# Altium schematic symbol library BKIT4U_LIB.SchLib: 368 symbols (part 3 of 3)
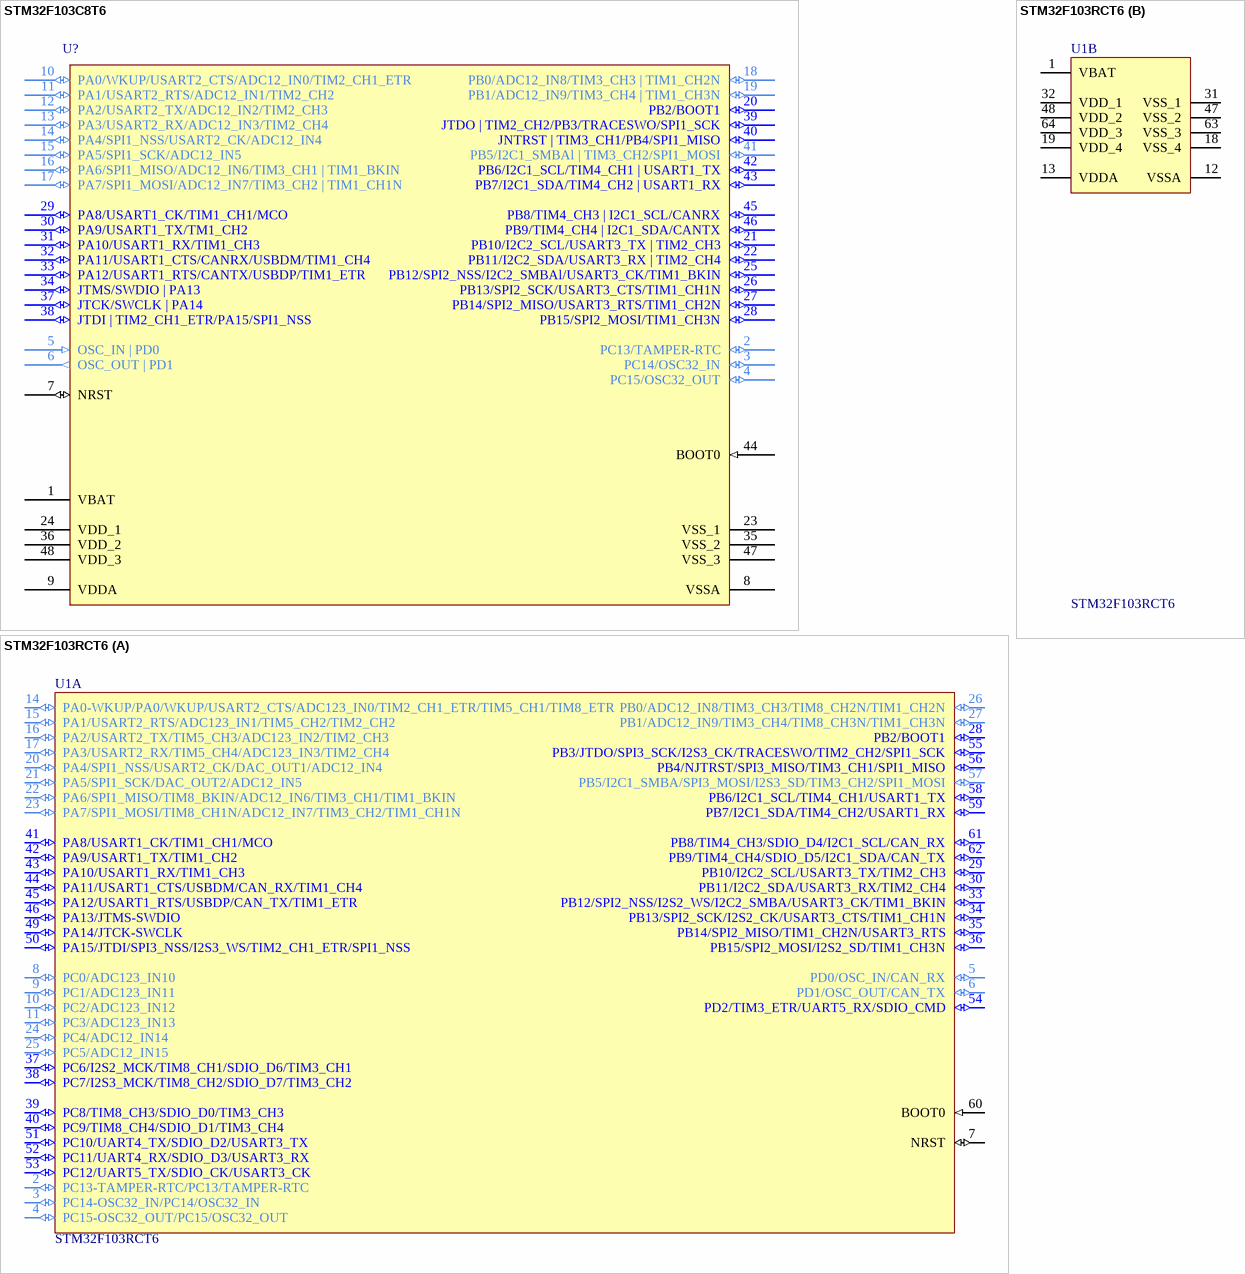
[diagram p19: symbols STM32F103C8T6 to STM32F103RCT6]

## STM32F103RCT6
designator U1
ARM Cortex-M3 32-bit MCU, 256 KB Flash, 48 KB Internal RAM, 51 I/Os, 64-pin LQFP, -40 to 85 degC, Tray; A/D Converter: 3x12-bit (16 Channel); D/A Converter: 2x12-bit (2 Channel); FLASH Size (Prog) (kB): 256; I/Os (High Current): 51; Internal RAM Size (kB): 48; Operating Frequency(F) (Processor speed) (MHz): 72; Supply Voltage(Vcc) min (V): 2; DatasheetVersion: Rev. 8; PackageVersion: Rev. 4, 06/2013; PackageReference: LQFP64; PackageDescription: 64-Pin Low Profile Quad Flat Package, 10 x 10 mm Body, 0.5 mm Pitch; Supplier 1: Digi-Key; Supplier Part Number 1: 497-9033-ND; Supplier 2: Newark; Supplier Part Number 2: 01P4099; Supplier 3: Newark; Supplier Part Number 3: 57P1227; Supplier 4: Mouser; Supplier Part Number 4: 511-STM32F103RCT6; Core: ARM Cortex-M3; Packing: Tray; Mounting Technology: Surface Mount; PartNumber: STM32F103RCT6; ComponentLink1Description: Manufacturer URL; ComponentLink1URL: http://www.st.com/web/en/home.html; ComponentLink2Description: Datasheet; ComponentLink2URL: http://www.st.com/st-web-ui/static/active/en/resource/technical/document/datasheet/CD00191185.pdf; ComponentLink3Description: Package Specification; ComponentLink3URL: http://www.st.com/st-web-ui/static/active/en/resource/technical/document/datasheet/DM00037051.pdf
footprint LQFP64_N (Thin QFP, 64-Leads, Body 10x10mm, Pitch 0.5mm, IPC Medium Density)
footprint STM-LQFP64_L (Footprint not found)
footprint STM-LQFP64_M (Thin QFP, 64-Leads, Body 10x10mm, Pitch 0.5mm, IPC Low Density)
footprint STM-LQFP64_V (Thin QFP, 64-Leads, Body 10x10mm, Pitch 0.5mm, ST Recommended)
part A pins: 2 PC13-TAMPER-RTC/PC13/TAMPER-RTC (io), 3 PC14-OSC32_IN/PC14/OSC32_IN (io), 4 PC15-OSC32_OUT/PC15/OSC32_OUT (io), 5 PD0/OSC_IN/CAN_RX (io), 6 PD1/OSC_OUT/CAN_TX (io), 7 NRST (io), 8 PC0/ADC123_IN10 (io), 9 PC1/ADC123_IN11 (io), 10 PC2/ADC123_IN12 (io), 11 PC3/ADC123_IN13 (io), 14 PA0-WKUP/PA0/WKUP/USART2_CTS/ADC123_IN0/TIM2_CH1_ETR/TIM5_CH1/TIM8_ETR (io), 15 PA1/USART2_RTS/ADC123_IN1/TIM5_CH2/TIM2_CH2 (io), 16 PA2/USART2_TX/TIM5_CH3/ADC123_IN2/TIM2_CH3 (io), 17 PA3/USART2_RX/TIM5_CH4/ADC123_IN3/TIM2_CH4 (io), 20 PA4/SPI1_NSS/USART2_CK/DAC_OUT1/ADC12_IN4 (io), 21 PA5/SPI1_SCK/DAC_OUT2/ADC12_IN5 (io), 22 PA6/SPI1_MISO/TIM8_BKIN/ADC12_IN6/TIM3_CH1/TIM1_BKIN (io), 23 PA7/SPI1_MOSI/TIM8_CH1N/ADC12_IN7/TIM3_CH2/TIM1_CH1N (io), 24 PC4/ADC12_IN14 (io), 25 PC5/ADC12_IN15 (io), 26 PB0/ADC12_IN8/TIM3_CH3/TIM8_CH2N/TIM1_CH2N (io), 27 PB1/ADC12_IN9/TIM3_CH4/TIM8_CH3N/TIM1_CH3N (io), 28 PB2/BOOT1 (io), 29 PB10/I2C2_SCL/USART3_TX/TIM2_CH3 (io), 30 PB11/I2C2_SDA/USART3_RX/TIM2_CH4 (io), 33 PB12/SPI2_NSS/I2S2_WS/I2C2_SMBA/USART3_CK/TIM1_BKIN (io), 34 PB13/SPI2_SCK/I2S2_CK/USART3_CTS/TIM1_CH1N (io), 35 PB14/SPI2_MISO/TIM1_CH2N/USART3_RTS (io), 36 PB15/SPI2_MOSI/I2S2_SD/TIM1_CH3N (io), 37 PC6/I2S2_MCK/TIM8_CH1/SDIO_D6/TIM3_CH1 (io), 38 PC7/I2S3_MCK/TIM8_CH2/SDIO_D7/TIM3_CH2 (io), 39 PC8/TIM8_CH3/SDIO_D0/TIM3_CH3 (io), 40 PC9/TIM8_CH4/SDIO_D1/TIM3_CH4 (io), 41 PA8/USART1_CK/TIM1_CH1/MCO (io), 42 PA9/USART1_TX/TIM1_CH2 (io), 43 PA10/USART1_RX/TIM1_CH3 (io), 44 PA11/USART1_CTS/USBDM/CAN_RX/TIM1_CH4 (io), 45 PA12/USART1_RTS/USBDP/CAN_TX/TIM1_ETR (io), 46 PA13/JTMS-SWDIO (io), 49 PA14/JTCK-SWCLK (io), 50 PA15/JTDI/SPI3_NSS/I2S3_WS/TIM2_CH1_ETR/SPI1_NSS (io), 51 PC10/UART4_TX/SDIO_D2/USART3_TX (io), 52 PC11/UART4_RX/SDIO_D3/USART3_RX (io), 53 PC12/UART5_TX/SDIO_CK/USART3_CK (io), 54 PD2/TIM3_ETR/UART5_RX/SDIO_CMD (io), 55 PB3/JTDO/SPI3_SCK/I2S3_CK/TRACESWO/TIM2_CH2/SPI1_SCK (io), 56 PB4/NJTRST/SPI3_MISO/TIM3_CH1/SPI1_MISO (io), 57 PB5/I2C1_SMBA/SPI3_MOSI/I2S3_SD/TIM3_CH2/SPI1_MOSI (io), 58 PB6/I2C1_SCL/TIM4_CH1/USART1_TX (io), 59 PB7/I2C1_SDA/TIM4_CH2/USART1_RX (io), 60 BOOT0 (in), 61 PB8/TIM4_CH3/SDIO_D4/I2C1_SCL/CAN_RX (io), 62 PB9/TIM4_CH4/SDIO_D5/I2C1_SDA/CAN_TX (io)
part B pins: 1 VBAT (power), 12 VSSA (power), 13 VDDA (power), 18 VSS_4 (power), 19 VDD_4 (power), 31 VSS_1 (power), 32 VDD_1 (power), 47 VSS_2 (power), 48 VDD_2 (power), 63 VSS_3 (power), 64 VDD_3 (power)

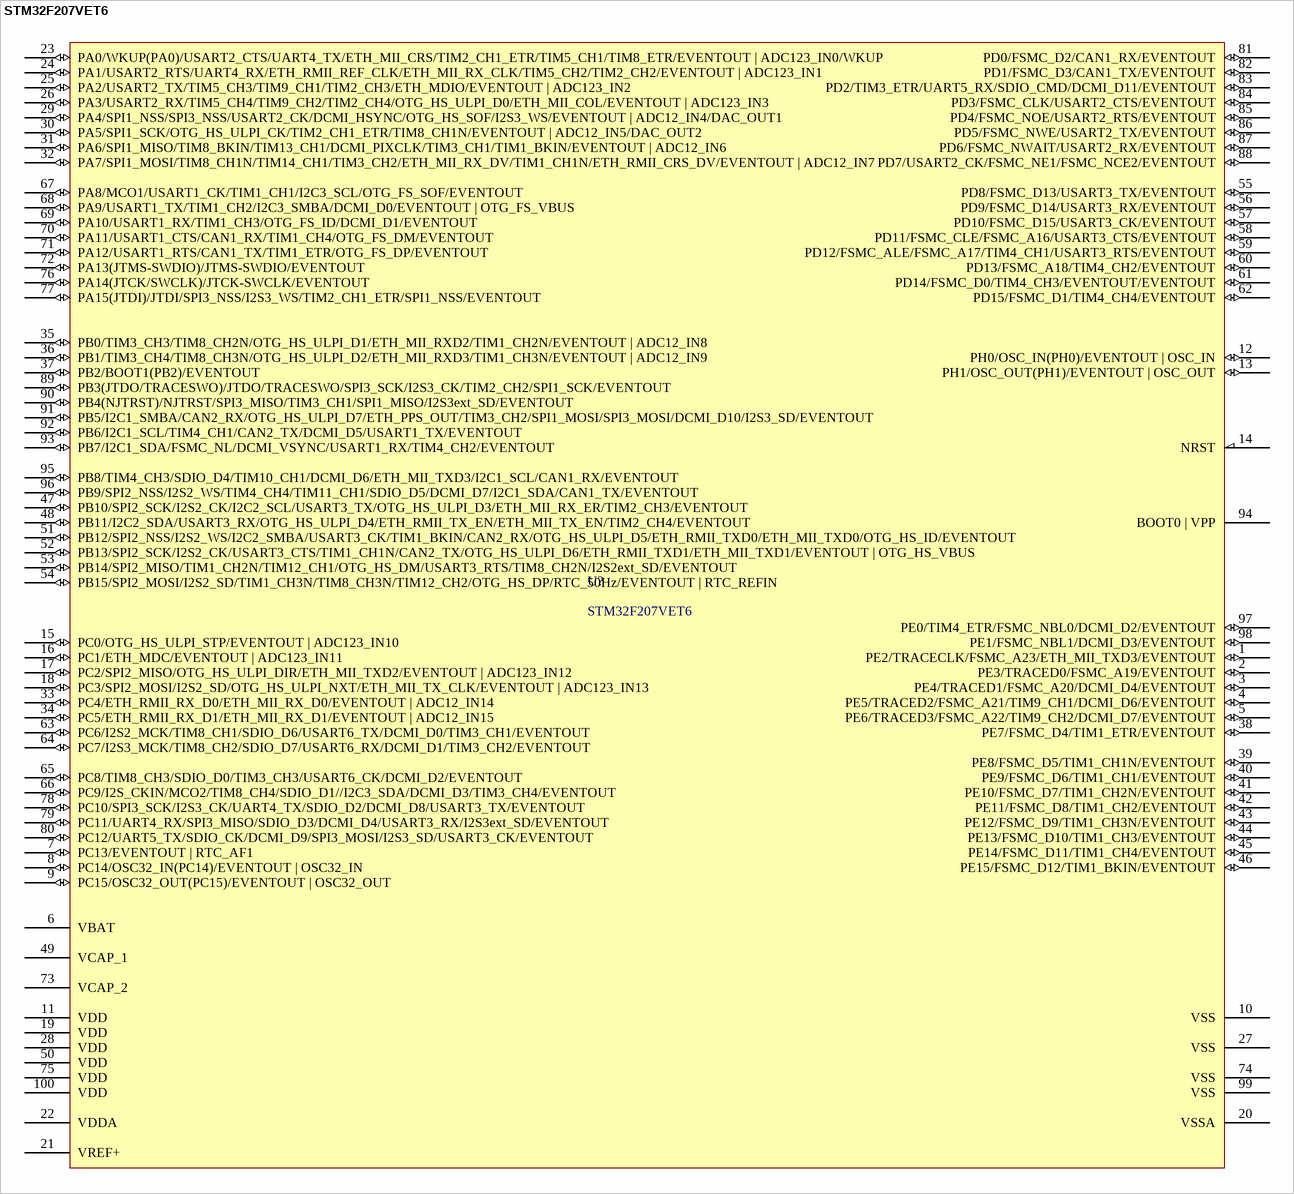
[diagram p15: symbol STM32F207VET6]

## STM32F207VET6
designator U?
Arm®-based 32-bit MCU, 150 DMIPs, up to 1 MB Flash/128+4KB RAM, USB / OTG HS/FS, Ethernet, 17 TIMs, 3 ADCs, 15 comm. interfaces and camera
footprint LQFP100_N (Thin QFP, 100-Leads, Body 14x14mm, Pitch 0.5mm, IPC Medium Density)
pins: 1 PE2/TRACECLK/FSMC_A23/ETH_MII_TXD3/EVENTOUT (io), 2 PE3/TRACED0/FSMC_A19/EVENTOUT (io), 3 PE4/TRACED1/FSMC_A20/DCMI_D4/EVENTOUT (io), 4 PE5/TRACED2/FSMC_A21/TIM9_CH1/DCMI_D6/EVENTOUT (io), 5 PE6/TRACED3/FSMC_A22/TIM9_CH2/DCMI_D7/EVENTOUT (io), 6 VBAT (power), 7 PC13/EVENTOUT | RTC_AF1 (io), 8 PC14/OSC32_IN(PC14)/EVENTOUT | OSC32_IN (io), 9 PC15/OSC32_OUT(PC15)/EVENTOUT | OSC32_OUT (io), 10 VSS (power), 11 VDD (power), 12 PH0/OSC_IN(PH0)/EVENTOUT | OSC_IN (io), 13 PH1/OSC_OUT(PH1)/EVENTOUT | OSC_OUT (io), 14 NRST, 15 PC0/OTG_HS_ULPI_STP/EVENTOUT | ADC123_IN10 (io), 16 PC1/ETH_MDC/EVENTOUT | ADC123_IN11 (io), 17 PC2/SPI2_MISO/OTG_HS_ULPI_DIR/ETH_MII_TXD2/EVENTOUT | ADC123_IN12 (io), 18 PC3/SPI2_MOSI/I2S2_SD/OTG_HS_ULPI_NXT/ETH_MII_TX_CLK/EVENTOUT | ADC123_IN13 (io), 19 VDD (power), 20 VSSA (power), 21 VREF+ (power), 22 VDDA (power), 23 PA0/WKUP(PA0)/USART2_CTS/UART4_TX/ETH_MII_CRS/TIM2_CH1_ETR/TIM5_CH1/TIM8_ETR/EVENTOUT | ADC123_IN0/WKUP (io), 24 PA1/USART2_RTS/UART4_RX/ETH_RMII_REF_CLK/ETH_MII_RX_CLK/TIM5_CH2/TIM2_CH2/EVENTOUT | ADC123_IN1 (io), 25 PA2/USART2_TX/TIM5_CH3/TIM9_CH1/TIM2_CH3/ETH_MDIO/EVENTOUT | ADC123_IN2 (io), 26 PA3/USART2_RX/TIM5_CH4/TIM9_CH2/TIM2_CH4/OTG_HS_ULPI_D0/ETH_MII_COL/EVENTOUT | ADC123_IN3 (io), 27 VSS (power), 28 VDD (power), 29 PA4/SPI1_NSS/SPI3_NSS/USART2_CK/DCMI_HSYNC/OTG_HS_SOF/I2S3_WS/EVENTOUT | ADC12_IN4/DAC_OUT1 (io), 30 PA5/SPI1_SCK/OTG_HS_ULPI_CK/TIM2_CH1_ETR/TIM8_CH1N/EVENTOUT | ADC12_IN5/DAC_OUT2 (io), 31 PA6/SPI1_MISO/TIM8_BKIN/TIM13_CH1/DCMI_PIXCLK/TIM3_CH1/TIM1_BKIN/EVENTOUT | ADC12_IN6 (io), 32 PA7/SPI1_MOSI/TIM8_CH1N/TIM14_CH1/TIM3_CH2/ETH_MII_RX_DV/TIM1_CH1N/ETH_RMII_CRS_DV/EVENTOUT | ADC12_IN7 (io), 33 PC4/ETH_RMII_RX_D0/ETH_MII_RX_D0/EVENTOUT | ADC12_IN14 (io), 34 PC5/ETH_RMII_RX_D1/ETH_MII_RX_D1/EVENTOUT | ADC12_IN15 (io), 35 PB0/TIM3_CH3/TIM8_CH2N/OTG_HS_ULPI_D1/ETH_MII_RXD2/TIM1_CH2N/EVENTOUT | ADC12_IN8 (io), 36 PB1/TIM3_CH4/TIM8_CH3N/OTG_HS_ULPI_D2/ETH_MII_RXD3/TIM1_CH3N/EVENTOUT | ADC12_IN9 (io), 37 PB2/BOOT1(PB2)/EVENTOUT (io), 38 PE7/FSMC_D4/TIM1_ETR/EVENTOUT (io), 39 PE8/FSMC_D5/TIM1_CH1N/EVENTOUT (io), 40 PE9/FSMC_D6/TIM1_CH1/EVENTOUT (io), 41 PE10/FSMC_D7/TIM1_CH2N/EVENTOUT (io), 42 PE11/FSMC_D8/TIM1_CH2/EVENTOUT (io), 43 PE12/FSMC_D9/TIM1_CH3N/EVENTOUT (io), 44 PE13/FSMC_D10/TIM1_CH3/EVENTOUT (io), 45 PE14/FSMC_D11/TIM1_CH4/EVENTOUT (io), 46 PE15/FSMC_D12/TIM1_BKIN/EVENTOUT (io), 47 PB10/SPI2_SCK/I2S2_CK/I2C2_SCL/USART3_TX/OTG_HS_ULPI_D3/ETH_MII_RX_ER/TIM2_CH3/EVENTOUT (io), 48 PB11/I2C2_SDA/USART3_RX/OTG_HS_ULPI_D4/ETH_RMII_TX_EN/ETH_MII_TX_EN/TIM2_CH4/EVENTOUT (io), 49 VCAP_1 (power), 50 VDD (power), 51 PB12/SPI2_NSS/I2S2_WS/I2C2_SMBA/USART3_CK/TIM1_BKIN/CAN2_RX/OTG_HS_ULPI_D5/ETH_RMII_TXD0/ETH_MII_TXD0/OTG_HS_ID/EVENTOUT (io), 52 PB13/SPI2_SCK/I2S2_CK/USART3_CTS/TIM1_CH1N/CAN2_TX/OTG_HS_ULPI_D6/ETH_RMII_TXD1/ETH_MII_TXD1/EVENTOUT | OTG_HS_VBUS (io), 53 PB14/SPI2_MISO/TIM1_CH2N/TIM12_CH1/OTG_HS_DM/USART3_RTS/TIM8_CH2N/I2S2ext_SD/EVENTOUT (io), 54 PB15/SPI2_MOSI/I2S2_SD/TIM1_CH3N/TIM8_CH3N/TIM12_CH2/OTG_HS_DP/RTC_50Hz/EVENTOUT | RTC_REFIN (io), 55 PD8/FSMC_D13/USART3_TX/EVENTOUT (io), 56 PD9/FSMC_D14/USART3_RX/EVENTOUT (io), 57 PD10/FSMC_D15/USART3_CK/EVENTOUT (io), 58 PD11/FSMC_CLE/FSMC_A16/USART3_CTS/EVENTOUT (io), 59 PD12/FSMC_ALE/FSMC_A17/TIM4_CH1/USART3_RTS/EVENTOUT (io), 60 PD13/FSMC_A18/TIM4_CH2/EVENTOUT (io), 61 PD14/FSMC_D0/TIM4_CH3/EVENTOUT/EVENTOUT (io), 62 PD15/FSMC_D1/TIM4_CH4/EVENTOUT (io), 63 PC6/I2S2_MCK/TIM8_CH1/SDIO_D6/USART6_TX/DCMI_D0/TIM3_CH1/EVENTOUT (io), 64 PC7/I2S3_MCK/TIM8_CH2/SDIO_D7/USART6_RX/DCMI_D1/TIM3_CH2/EVENTOUT (io), 65 PC8/TIM8_CH3/SDIO_D0/TIM3_CH3/USART6_CK/DCMI_D2/EVENTOUT (io), 66 PC9/I2S_CKIN/MCO2/TIM8_CH4/SDIO_D1//I2C3_SDA/DCMI_D3/TIM3_CH4/EVENTOUT (io), 67 PA8/MCO1/USART1_CK/TIM1_CH1/I2C3_SCL/OTG_FS_SOF/EVENTOUT (io), 68 PA9/USART1_TX/TIM1_CH2/I2C3_SMBA/DCMI_D0/EVENTOUT | OTG_FS_VBUS (io), 69 PA10/USART1_RX/TIM1_CH3/OTG_FS_ID/DCMI_D1/EVENTOUT (io), 70 PA11/USART1_CTS/CAN1_RX/TIM1_CH4/OTG_FS_DM/EVENTOUT (io), 71 PA12/USART1_RTS/CAN1_TX/TIM1_ETR/OTG_FS_DP/EVENTOUT (io), 72 PA13(JTMS-SWDIO)/JTMS-SWDIO/EVENTOUT (io), 73 VCAP_2 (power), 74 VSS (power), 75 VDD (power), 76 PA14(JTCK/SWCLK)/JTCK-SWCLK/EVENTOUT (io), 77 PA15(JTDI)/JTDI/SPI3_NSS/I2S3_WS/TIM2_CH1_ETR/SPI1_NSS/EVENTOUT (io), 78 PC10/SPI3_SCK/I2S3_CK/UART4_TX/SDIO_D2/DCMI_D8/USART3_TX/EVENTOUT (io), 79 PC11/UART4_RX/SPI3_MISO/SDIO_D3/DCMI_D4/USART3_RX/I2S3ext_SD/EVENTOUT (io), 80 PC12/UART5_TX/SDIO_CK/DCMI_D9/SPI3_MOSI/I2S3_SD/USART3_CK/EVENTOUT (io), 81 PD0/FSMC_D2/CAN1_RX/EVENTOUT (io), 82 PD1/FSMC_D3/CAN1_TX/EVENTOUT (io), 83 PD2/TIM3_ETR/UART5_RX/SDIO_CMD/DCMI_D11/EVENTOUT (io), 84 PD3/FSMC_CLK/USART2_CTS/EVENTOUT (io), 85 PD4/FSMC_NOE/USART2_RTS/EVENTOUT (io), 86 PD5/FSMC_NWE/USART2_TX/EVENTOUT (io), 87 PD6/FSMC_NWAIT/USART2_RX/EVENTOUT (io), 88 PD7/USART2_CK/FSMC_NE1/FSMC_NCE2/EVENTOUT (io), 89 PB3(JTDO/TRACESWO)/JTDO/TRACESWO/SPI3_SCK/I2S3_CK/TIM2_CH2/SPI1_SCK/EVENTOUT (io), 90 PB4(NJTRST)/NJTRST/SPI3_MISO/TIM3_CH1/SPI1_MISO/I2S3ext_SD/EVENTOUT (io), 91 PB5/I2C1_SMBA/CAN2_RX/OTG_HS_ULPI_D7/ETH_PPS_OUT/TIM3_CH2/SPI1_MOSI/SPI3_MOSI/DCMI_D10/I2S3_SD/EVENTOUT (io), 92 PB6/I2C1_SCL/TIM4_CH1/CAN2_TX/DCMI_D5/USART1_TX/EVENTOUT (io), 93 PB7/I2C1_SDA/FSMC_NL/DCMI_VSYNC/USART1_RX/TIM4_CH2/EVENTOUT (io), 94 BOOT0 | VPP, 95 PB8/TIM4_CH3/SDIO_D4/TIM10_CH1/DCMI_D6/ETH_MII_TXD3/I2C1_SCL/CAN1_RX/EVENTOUT (io), 96 PB9/SPI2_NSS/I2S2_WS/TIM4_CH4/TIM11_CH1/SDIO_D5/DCMI_D7/I2C1_SDA/CAN1_TX/EVENTOUT (io), 97 PE0/TIM4_ETR/FSMC_NBL0/DCMI_D2/EVENTOUT (io), 98 PE1/FSMC_NBL1/DCMI_D3/EVENTOUT (io), 99 VSS (power), 100 VDD (power)

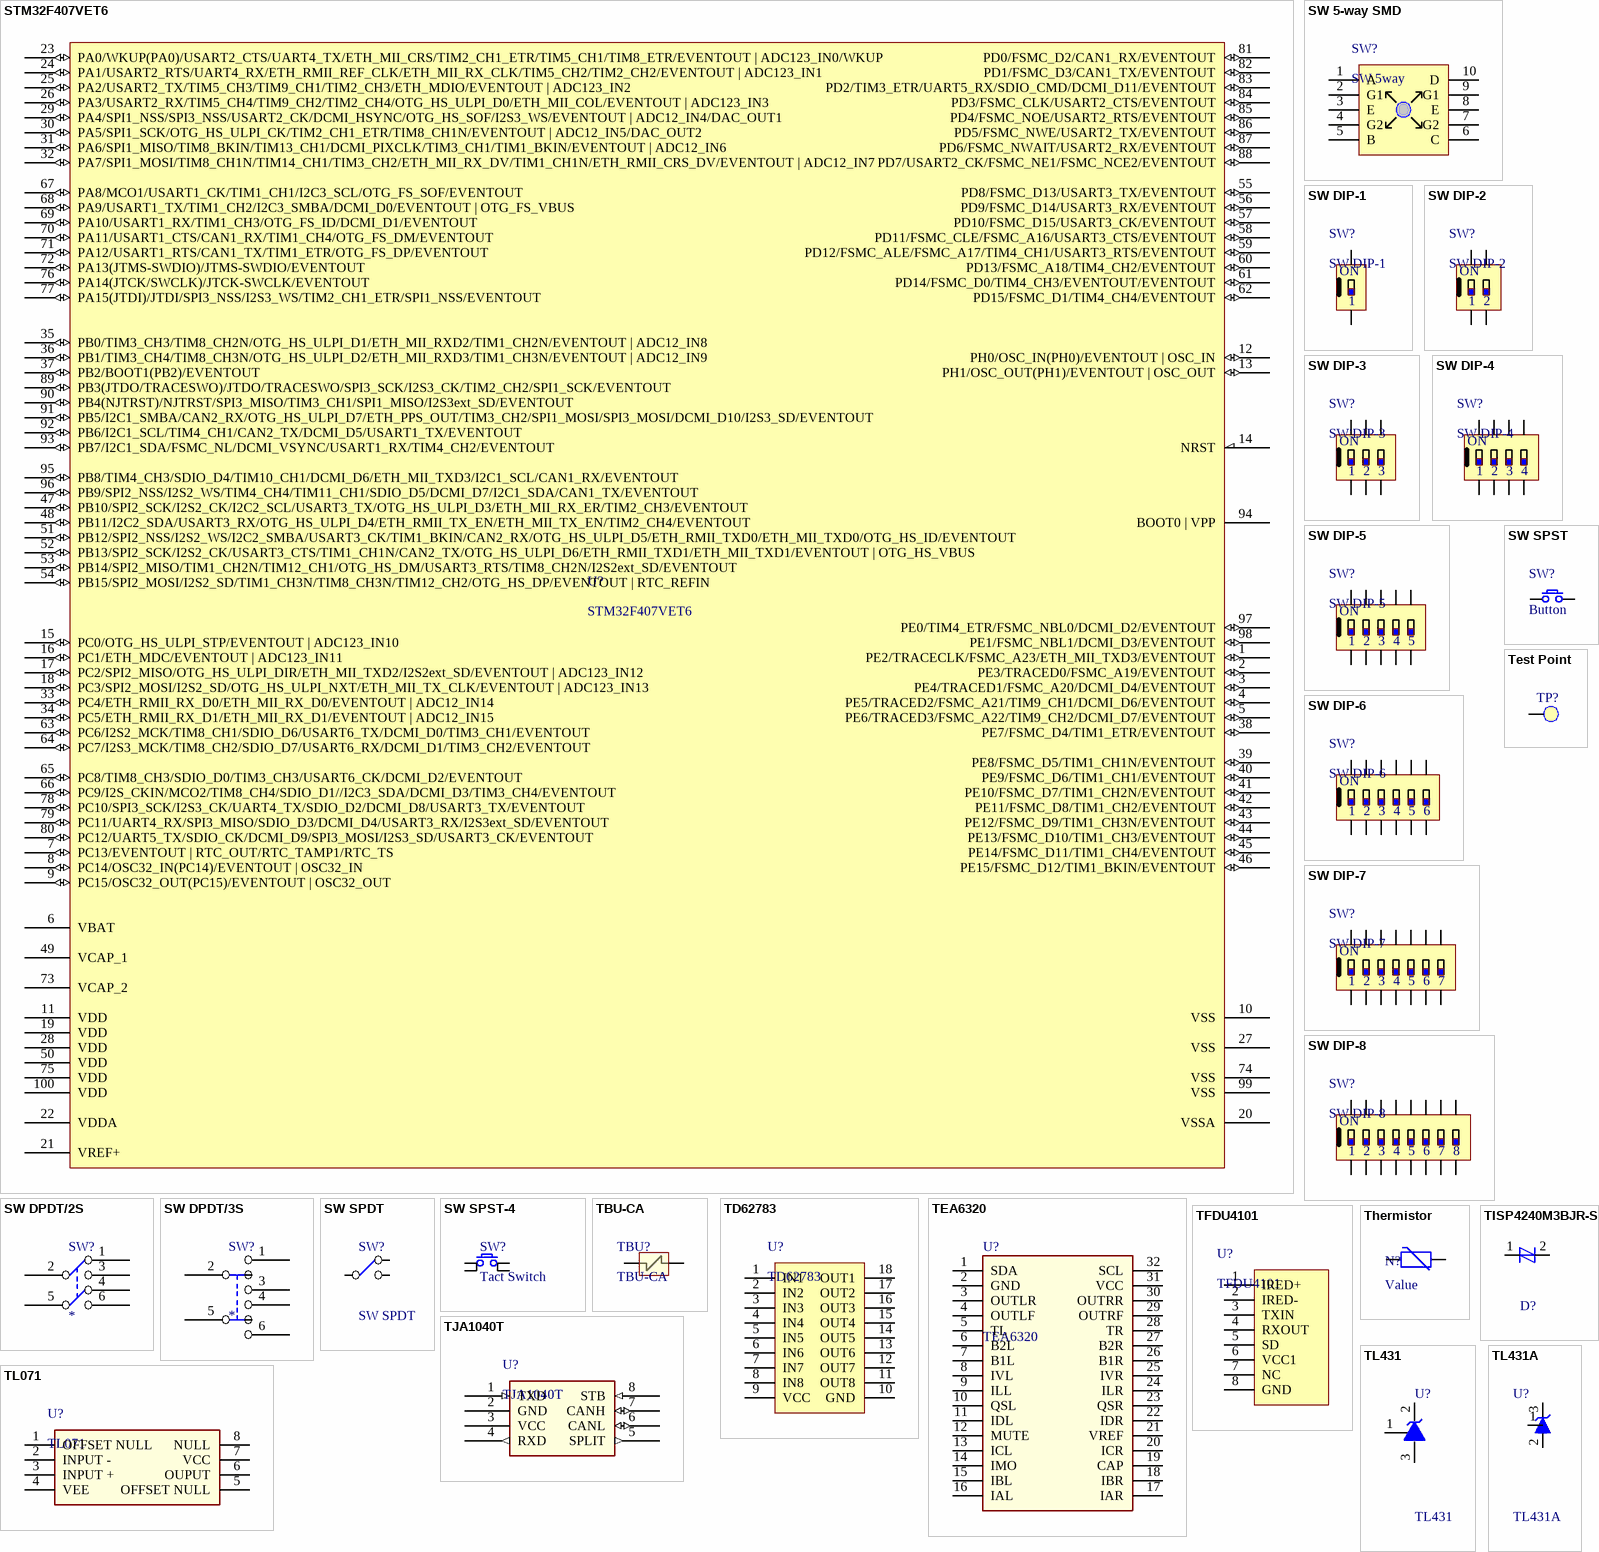
[diagram p16: symbols STM32F407VET6 to TL431A]

## STM32F407VET6
designator U?
footprint LQFP100_N (Thin QFP, 100-Leads, Body 14x14mm, Pitch 0.5mm, IPC Medium Density)
pins: 1 PE2/TRACECLK/FSMC_A23/ETH_MII_TXD3/EVENTOUT (io), 2 PE3/TRACED0/FSMC_A19/EVENTOUT (io), 3 PE4/TRACED1/FSMC_A20/DCMI_D4/EVENTOUT (io), 4 PE5/TRACED2/FSMC_A21/TIM9_CH1/DCMI_D6/EVENTOUT (io), 5 PE6/TRACED3/FSMC_A22/TIM9_CH2/DCMI_D7/EVENTOUT (io), 6 VBAT (power), 7 PC13/EVENTOUT | RTC_OUT/RTC_TAMP1/RTC_TS (io), 8 PC14/OSC32_IN(PC14)/EVENTOUT | OSC32_IN (io), 9 PC15/OSC32_OUT(PC15)/EVENTOUT | OSC32_OUT (io), 10 VSS (power), 11 VDD (power), 12 PH0/OSC_IN(PH0)/EVENTOUT | OSC_IN (io), 13 PH1/OSC_OUT(PH1)/EVENTOUT | OSC_OUT (io), 14 NRST, 15 PC0/OTG_HS_ULPI_STP/EVENTOUT | ADC123_IN10 (io), 16 PC1/ETH_MDC/EVENTOUT | ADC123_IN11 (io), 17 PC2/SPI2_MISO/OTG_HS_ULPI_DIR/ETH_MII_TXD2/I2S2ext_SD/EVENTOUT | ADC123_IN12 (io), 18 PC3/SPI2_MOSI/I2S2_SD/OTG_HS_ULPI_NXT/ETH_MII_TX_CLK/EVENTOUT | ADC123_IN13 (io), 19 VDD (power), 20 VSSA (power), 21 VREF+ (power), 22 VDDA (power), 23 PA0/WKUP(PA0)/USART2_CTS/UART4_TX/ETH_MII_CRS/TIM2_CH1_ETR/TIM5_CH1/TIM8_ETR/EVENTOUT | ADC123_IN0/WKUP (io), 24 PA1/USART2_RTS/UART4_RX/ETH_RMII_REF_CLK/ETH_MII_RX_CLK/TIM5_CH2/TIM2_CH2/EVENTOUT | ADC123_IN1 (io), 25 PA2/USART2_TX/TIM5_CH3/TIM9_CH1/TIM2_CH3/ETH_MDIO/EVENTOUT | ADC123_IN2 (io), 26 PA3/USART2_RX/TIM5_CH4/TIM9_CH2/TIM2_CH4/OTG_HS_ULPI_D0/ETH_MII_COL/EVENTOUT | ADC123_IN3 (io), 27 VSS (power), 28 VDD (power), 29 PA4/SPI1_NSS/SPI3_NSS/USART2_CK/DCMI_HSYNC/OTG_HS_SOF/I2S3_WS/EVENTOUT | ADC12_IN4/DAC_OUT1 (io), 30 PA5/SPI1_SCK/OTG_HS_ULPI_CK/TIM2_CH1_ETR/TIM8_CH1N/EVENTOUT | ADC12_IN5/DAC_OUT2 (io), 31 PA6/SPI1_MISO/TIM8_BKIN/TIM13_CH1/DCMI_PIXCLK/TIM3_CH1/TIM1_BKIN/EVENTOUT | ADC12_IN6 (io), 32 PA7/SPI1_MOSI/TIM8_CH1N/TIM14_CH1/TIM3_CH2/ETH_MII_RX_DV/TIM1_CH1N/ETH_RMII_CRS_DV/EVENTOUT | ADC12_IN7 (io), 33 PC4/ETH_RMII_RX_D0/ETH_MII_RX_D0/EVENTOUT | ADC12_IN14 (io), 34 PC5/ETH_RMII_RX_D1/ETH_MII_RX_D1/EVENTOUT | ADC12_IN15 (io), 35 PB0/TIM3_CH3/TIM8_CH2N/OTG_HS_ULPI_D1/ETH_MII_RXD2/TIM1_CH2N/EVENTOUT | ADC12_IN8 (io), 36 PB1/TIM3_CH4/TIM8_CH3N/OTG_HS_ULPI_D2/ETH_MII_RXD3/TIM1_CH3N/EVENTOUT | ADC12_IN9 (io), 37 PB2/BOOT1(PB2)/EVENTOUT (io), 38 PE7/FSMC_D4/TIM1_ETR/EVENTOUT (io), 39 PE8/FSMC_D5/TIM1_CH1N/EVENTOUT (io), 40 PE9/FSMC_D6/TIM1_CH1/EVENTOUT (io), 41 PE10/FSMC_D7/TIM1_CH2N/EVENTOUT (io), 42 PE11/FSMC_D8/TIM1_CH2/EVENTOUT (io), 43 PE12/FSMC_D9/TIM1_CH3N/EVENTOUT (io), 44 PE13/FSMC_D10/TIM1_CH3/EVENTOUT (io), 45 PE14/FSMC_D11/TIM1_CH4/EVENTOUT (io), 46 PE15/FSMC_D12/TIM1_BKIN/EVENTOUT (io), 47 PB10/SPI2_SCK/I2S2_CK/I2C2_SCL/USART3_TX/OTG_HS_ULPI_D3/ETH_MII_RX_ER/TIM2_CH3/EVENTOUT (io), 48 PB11/I2C2_SDA/USART3_RX/OTG_HS_ULPI_D4/ETH_RMII_TX_EN/ETH_MII_TX_EN/TIM2_CH4/EVENTOUT (io), 49 VCAP_1 (power), 50 VDD (power), 51 PB12/SPI2_NSS/I2S2_WS/I2C2_SMBA/USART3_CK/TIM1_BKIN/CAN2_RX/OTG_HS_ULPI_D5/ETH_RMII_TXD0/ETH_MII_TXD0/OTG_HS_ID/EVENTOUT (io), 52 PB13/SPI2_SCK/I2S2_CK/USART3_CTS/TIM1_CH1N/CAN2_TX/OTG_HS_ULPI_D6/ETH_RMII_TXD1/ETH_MII_TXD1/EVENTOUT | OTG_HS_VBUS (io), 53 PB14/SPI2_MISO/TIM1_CH2N/TIM12_CH1/OTG_HS_DM/USART3_RTS/TIM8_CH2N/I2S2ext_SD/EVENTOUT (io), 54 PB15/SPI2_MOSI/I2S2_SD/TIM1_CH3N/TIM8_CH3N/TIM12_CH2/OTG_HS_DP/EVENTOUT | RTC_REFIN (io), 55 PD8/FSMC_D13/USART3_TX/EVENTOUT (io), 56 PD9/FSMC_D14/USART3_RX/EVENTOUT (io), 57 PD10/FSMC_D15/USART3_CK/EVENTOUT (io), 58 PD11/FSMC_CLE/FSMC_A16/USART3_CTS/EVENTOUT (io), 59 PD12/FSMC_ALE/FSMC_A17/TIM4_CH1/USART3_RTS/EVENTOUT (io), 60 PD13/FSMC_A18/TIM4_CH2/EVENTOUT (io), 61 PD14/FSMC_D0/TIM4_CH3/EVENTOUT/EVENTOUT (io), 62 PD15/FSMC_D1/TIM4_CH4/EVENTOUT (io), 63 PC6/I2S2_MCK/TIM8_CH1/SDIO_D6/USART6_TX/DCMI_D0/TIM3_CH1/EVENTOUT (io), 64 PC7/I2S3_MCK/TIM8_CH2/SDIO_D7/USART6_RX/DCMI_D1/TIM3_CH2/EVENTOUT (io), 65 PC8/TIM8_CH3/SDIO_D0/TIM3_CH3/USART6_CK/DCMI_D2/EVENTOUT (io), 66 PC9/I2S_CKIN/MCO2/TIM8_CH4/SDIO_D1//I2C3_SDA/DCMI_D3/TIM3_CH4/EVENTOUT (io), 67 PA8/MCO1/USART1_CK/TIM1_CH1/I2C3_SCL/OTG_FS_SOF/EVENTOUT (io), 68 PA9/USART1_TX/TIM1_CH2/I2C3_SMBA/DCMI_D0/EVENTOUT | OTG_FS_VBUS (io), 69 PA10/USART1_RX/TIM1_CH3/OTG_FS_ID/DCMI_D1/EVENTOUT (io), 70 PA11/USART1_CTS/CAN1_RX/TIM1_CH4/OTG_FS_DM/EVENTOUT (io), 71 PA12/USART1_RTS/CAN1_TX/TIM1_ETR/OTG_FS_DP/EVENTOUT (io), 72 PA13(JTMS-SWDIO)/JTMS-SWDIO/EVENTOUT (io), 73 VCAP_2 (power), 74 VSS (power), 75 VDD (power), 76 PA14(JTCK/SWCLK)/JTCK-SWCLK/EVENTOUT (io), 77 PA15(JTDI)/JTDI/SPI3_NSS/I2S3_WS/TIM2_CH1_ETR/SPI1_NSS/EVENTOUT (io), 78 PC10/SPI3_SCK/I2S3_CK/UART4_TX/SDIO_D2/DCMI_D8/USART3_TX/EVENTOUT (io), 79 PC11/UART4_RX/SPI3_MISO/SDIO_D3/DCMI_D4/USART3_RX/I2S3ext_SD/EVENTOUT (io), 80 PC12/UART5_TX/SDIO_CK/DCMI_D9/SPI3_MOSI/I2S3_SD/USART3_CK/EVENTOUT (io), 81 PD0/FSMC_D2/CAN1_RX/EVENTOUT (io), 82 PD1/FSMC_D3/CAN1_TX/EVENTOUT (io), 83 PD2/TIM3_ETR/UART5_RX/SDIO_CMD/DCMI_D11/EVENTOUT (io), 84 PD3/FSMC_CLK/USART2_CTS/EVENTOUT (io), 85 PD4/FSMC_NOE/USART2_RTS/EVENTOUT (io), 86 PD5/FSMC_NWE/USART2_TX/EVENTOUT (io), 87 PD6/FSMC_NWAIT/USART2_RX/EVENTOUT (io), 88 PD7/USART2_CK/FSMC_NE1/FSMC_NCE2/EVENTOUT (io), 89 PB3(JTDO/TRACESWO)/JTDO/TRACESWO/SPI3_SCK/I2S3_CK/TIM2_CH2/SPI1_SCK/EVENTOUT (io), 90 PB4(NJTRST)/NJTRST/SPI3_MISO/TIM3_CH1/SPI1_MISO/I2S3ext_SD/EVENTOUT (io), 91 PB5/I2C1_SMBA/CAN2_RX/OTG_HS_ULPI_D7/ETH_PPS_OUT/TIM3_CH2/SPI1_MOSI/SPI3_MOSI/DCMI_D10/I2S3_SD/EVENTOUT (io), 92 PB6/I2C1_SCL/TIM4_CH1/CAN2_TX/DCMI_D5/USART1_TX/EVENTOUT (io), 93 PB7/I2C1_SDA/FSMC_NL/DCMI_VSYNC/USART1_RX/TIM4_CH2/EVENTOUT (io), 94 BOOT0 | VPP, 95 PB8/TIM4_CH3/SDIO_D4/TIM10_CH1/DCMI_D6/ETH_MII_TXD3/I2C1_SCL/CAN1_RX/EVENTOUT (io), 96 PB9/SPI2_NSS/I2S2_WS/TIM4_CH4/TIM11_CH1/SDIO_D5/DCMI_D7/I2C1_SDA/CAN1_TX/EVENTOUT (io), 97 PE0/TIM4_ETR/FSMC_NBL0/DCMI_D2/EVENTOUT (io), 98 PE1/FSMC_NBL1/DCMI_D3/EVENTOUT (io), 99 VSS (power), 100 VDD (power)

## SW 5-way SMD
designator SW?, comment SW 5way
5-way tact SW, SMD Package
footprint SW 5-WAY SMD
pins: 1 A, 2 G1, 3 E, 4 G2, 5 B, 6 C, 7 G2, 8 E, 9 G1, 10 D

## SW DIP-1
designator SW?
footprint SW/DIP1
pins: 1, 2
text: ON

## SW DIP-2
designator SW?
footprint SW/DIP2
pins: 1, 2, 3, 4
text: ON

## SW DIP-3
designator SW?
footprint SW/DIP3
pins: 1, 2, 3, 4, 5, 6
text: ON

## SW DIP-4
designator SW?
footprint SW/DIP4
pins: 1, 2, 3, 4, 5, 6, 7, 8
text: ON

## SW DIP-5
designator SW?
footprint SW/DIP5
pins: 1, 2, 3, 4, 5, 6, 7, 8, 9, 10
text: ON

## SW DIP-6
designator SW?
footprint SW/DIP6
pins: 1, 2, 3, 4, 5, 6, 7, 8, 9, 10, 11, 12
text: ON

## SW DIP-7
designator SW?
footprint SW/DIP7
pins: 1, 2, 3, 4, 5, 6, 7, 8, 9, 10, 11, 12, 13, 14
text: ON

## SW DIP-8
designator SW?
footprint SW/DIP8
pins: 1, 2, 3, 4, 5, 6, 7, 8, 9, 10, 11, 12, 13, 14, 15, 16
text: ON

## SW DPDT/2S
designator SW?
footprint SW/6/DPDT/SELECT (6A125V Double Pole, Double Throw Switch, Pitch 4.5mm, 13x13mm)
pins: 1 NC1, 2 COMMON1, 3 NO1, 4 NC2, 5 COMMON2, 6 NO2

## SW DPDT/3S
designator SW?
footprint SW/6/DPDT/SELECT (6A125V Double Pole, Double Throw Switch, Pitch 4.5mm, 13x13mm)
pins: 0 NC, 0 NC, 1 NC1, 2 COMMON1, 3 NO1, 4 NC2, 5 COMMON2, 6 NO2

## SW SPDT
designator SW?
footprint SW/3/SPDT/POWER
footprint SW/5/SPDT/MEDIUM
footprint SW/5/SPDT/SMALL
footprint SW/3/SPDT/POWER/6A
pins: 1 NC1, 2 COMMON1, 3 NO1

## SW SPST
designator SW?, comment Button
Tact switch 2 pin
footprint SW/2/DIP
footprint SW/2/SMD
footprint SW/2/DIP Edge
footprint SW/2/PUSH/SMALL (NO Push Button, pitch 4mm, Dia 10mm)
pins: 1, 2

## SW SPST-4
designator SW?, comment Tact Switch
Tact switch 4 pin
footprint SW/4/DIP/SMALL
footprint SW/4/SMD/SMALL
footprint SW/4/DIP 12x12x7
pins: 1, 2, 3 1, 4 2

## TBU-CA
designator TBU?
High-Speed Protectors
footprint TBU-CA
pins: 1, 3

## TD62783
designator U?
High-voltage, high-current Darlington transistor arrays
footprint DIP 18
pins: 1 IN1, 2 IN2, 3 IN3, 4 IN4, 5 IN5, 6 IN6, 7 IN7, 8 IN8, 9 VCC, 10 GND, 11 OUT8, 12 OUT7, 13 OUT6, 14 OUT5, 15 OUT4, 16 OUT3, 17 OUT2, 18 OUT1

## TEA6320
designator U?
DSP
footprint SOIC-32 (SOIC, 28-Leads, Body 17.9x7.5mm (max), Pitch 1.27mm, IPC Medium Density)
pins: 1 SDA, 2 GND, 3 OUTLR, 4 OUTLF, 5 TL, 6 B2L, 7 B1L, 8 IVL, 9 ILL, 10 QSL, 11 IDL, 12 MUTE, 13 ICL, 14 IMO, 15 IBL, 16 IAL, 17 IAR, 18 IBR, 19 CAP, 20 ICR, 21 VREF, 22 IDR, 23 QSR, 24 ILR, 25 IVR, 26 B1R, 27 B2R, 28 TR, 29 OUTRF, 30 OUTRR, 31 VCC, 32 SCL

## Test Point
designator TP?  (value not drawn)
footprint Test Point
footprint TESTHOLE (11MM)
pins: 1 TP

## TFDU4101
designator U?
Infrared Transceiver Module (SIR, 115.2 kbit/s) for IrDA®  Applications
pins: 1 IRED+, 2 IRED-, 3 TXIN, 4 RXOUT, 5 SD, 6 VCC1, 7 NC, 8 GND

## Thermistor
designator N?, comment Value
Resistor; Published: 8-Jun-2000; LatestRevisionDate: 17-Jul-2002; LatestRevisionNote: Re-released for DXP Platform.; PackageReference: AXIAL-0.3; Publisher: Altium Limited
footprint NTC 7.5MM
pins: 1, 2

## TISP4240M3BJR-S
designator D?  (value not drawn)
footprint DO-214AA (SMB) (Molded Diode, 2-Leads, Body 7.9x5.8mm, IPC Low Density)
pins: 1 R, 2 T

## TJA1040T
designator U?
High speed CAN transceiver, compatible with 3.3 V and 5 V devices
footprint SOIC127P600X175-8N (SOIC, 8-Leads, Body 5.0x4.0mm (max), Pitch 1.27mm, IPC Medium Density)
pins: 1 TXD (in), 2 GND (power), 3 VCC (power), 4 RXD (out), 5 SPLIT (out), 6 CANL (io), 7 CANH (io), 8 STB (in)

## TL071
designator U?
Low Noise, JFET Input Operational Amplifiers
footprint DIP 8 (DIP IC (2.54mm), 8 pins)
footprint SOIC-8 (SOIC, 8-Leads, Body 5.0x4.0mm (max), Pitch 1.27mm, IPC Medium Density)
pins: 1 OFFSET NULL, 2 INPUT -, 3 INPUT +, 4 VEE, 5 OFFSET NULL, 6 OUPUT, 7 VCC, 8 NULL

## TL431
designator U?
Precision Programmable Reference
footprint SOT-23 (SOT23, 3-Leads, Body 3.0x2.5mm (max), Pitch 0.95mm, IPC Medium Density)
pins: 1 REF, 2 1, 3 K

## TL431A
designator U?
footprint TO-92
footprint SOT-23 (SOT23, 3-Leads, Body 3.0x2.5mm (max), Pitch 0.95mm, IPC Medium Density)
pins: 1 REF, 2 A, 3 K

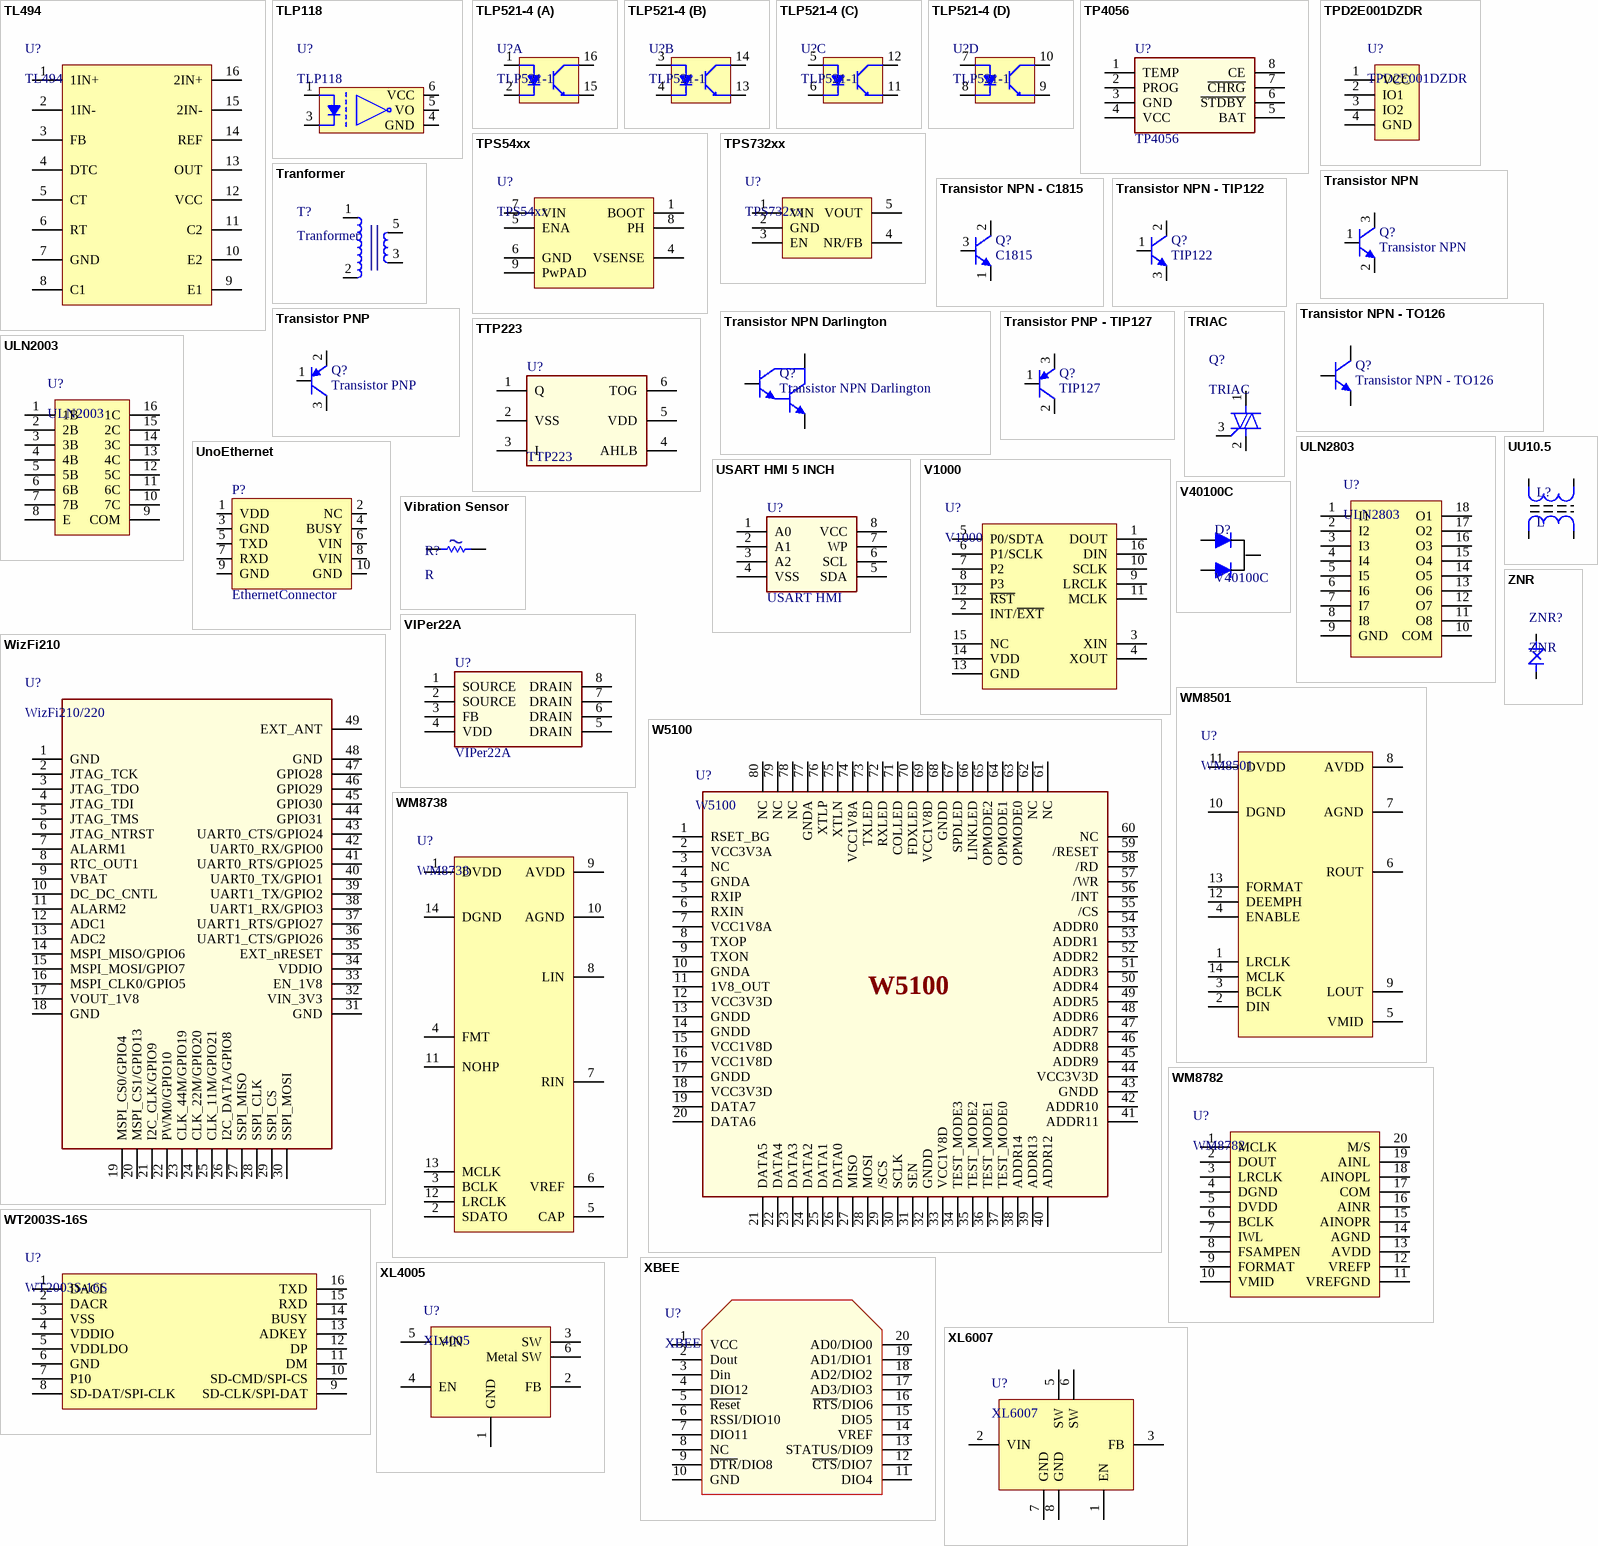
[diagram p17: symbols TL494 to ZNR]

## TL494
designator U?
Pulse-Width-Modulation Control Circuits
footprint SOIC-16 (SOIC, 16-Leads, Body 10.0x4.0mm (max), Pitch 1.27mm, IPC Medium Density)
footprint DIP 16
pins: 1 1IN+, 2 1IN-, 3 FB, 4 DTC, 5 CT, 6 RT, 7 GND, 8 C1, 9 E1, 10 E2, 11 C2, 12 VCC, 13 OUT, 14 REF, 15 2IN-, 16 2IN+

## TLP118
designator U?
TOSHIBA PHOTOCOUPLER GaAℓAs IRED & PHOTO-IC
footprint SO-6 HCPL
pins: 1 A, 3 K, 4 GND, 5 VO, 6 VCC

## TLP521-4
designator U?, comment TLP521-1
footprint DIP 16
footprint SOIC-16 (SOIC, 16-Leads, Body 10.0x4.0mm (max), Pitch 1.27mm, IPC Medium Density)
part A pins: 1 A, 2 K, 15 E, 16 C
part B pins: 3 A, 4 K, 13 E, 14 C
part C pins: 5 A, 6 K, 11 E, 12 C
part D pins: 7 A, 8 K, 9 E, 10 C

## TP4056
designator U?
1A Standalone Linear Li-lon Battery Charger with Thermal  Regulation
footprint SOIC-8 (SOIC, 8-Leads, Body 5.0x4.0mm (max), Pitch 1.27mm, IPC Medium Density)
pins: 1 TEMP, 2 PROG, 3 GND, 4 VCC, 5 BAT, 6 ~{STDBY}, 7 ~{CHRG}, 8 CE

## TPD2E001DZDR
designator U?
Low-capacitance 2 channel ±15kV ESD protection array for high-speed data interfaces
footprint SOT-143B (SOT143, 4-Leads, Body 3.0x2.6mm (max), Pitch 1.92mm, IPC Medium Density)
pins: 1 VCC, 2 IO1, 3 IO2, 4 GND

## TPS54xx
designator U?
3/5A, Wide input range, Step-down SWIFT DC-DC Converter
footprint SOIC-8 EP (SOIC, 8-Leads, Body 5.0x4.0mm (max), Pitch 1.27mm, IPC Medium Density)
pins: 1 BOOT, 4 VSENSE, 5 ENA, 6 GND, 7 VIN, 8 PH, 9 PwPAD

## TPS732xx
designator U?
Cap-Free, NMOS, 250mA Low Dropout Regulator with Reverse Current Protection
footprint SOT-23-5 (SOT23, 5-Leads, Body 3.0x3.0mm (max), Pitch 0.95mm, IPC Medium Density)
pins: 1 VIN, 2 GND, 3 EN, 4 NR/FB, 5 VOUT

## Tranformer
designator T?
footprint EI28*14
pins: 1, 2, 3, 5

## Transistor NPN
designator Q?
NPN Bipolar Transistor
footprint SOT-23 (SOT23, 3-Leads, Body 3.0x2.5mm (max), Pitch 0.95mm, IPC Medium Density)
pins: 1 B, 2 E, 3 C

## Transistor NPN - C1815
designator Q?, comment C1815
NPN Bipolar Transistor
footprint TO-126
pins: 1 E, 2 C, 3 B

## Transistor NPN - TIP122
designator Q?, comment TIP122
NPN Bipolar Transistor
footprint TO-126
pins: 1 B, 2 C, 3 E

## Transistor NPN - TO126
designator Q?
NPN Bipolar Transistor
footprint TO-126
pins: 1 E, 2 C, 3 B

## Transistor NPN Darlington
designator Q?
NPN Darlington Transistor; Published: 8-Jun-2000; LatestRevisionDate: 17-Jul-2002; LatestRevisionNote: Re-released for DXP Platform.; PackageReference: TO-226; Publisher: Altium Limited; Code_JEDEC: TO-226-AA
footprint TO-220
pins: 1 B, 2 E, 3 C

## Transistor PNP
designator Q?
PNP Bipolar Transistor; Published: 8-Jun-2000; LatestRevisionDate: 29-May-2009; LatestRevisionNote: IPC-7351 Footprint Added.; PackageVersion: Aug-1999; PackageReference: SOT-23B; Publisher: Altium Limited; PackageDescription: 3-Pin SOT-23 Package 0.95 mm Pitch, 2.4 mm Lead Span
footprint SOT-23 (SOT23, 3-Leads, Body 3.0x2.5mm (max), Pitch 0.95mm, IPC Medium Density)
pins: 1 B, 2 E, 3 C

## Transistor PNP - TIP127
designator Q?, comment TIP127
PNP Bipolar Transistor; Published: 8-Jun-2000; LatestRevisionDate: 29-May-2009; LatestRevisionNote: IPC-7351 Footprint Added.; PackageVersion: Aug-1999; PackageReference: SOT-23B; Publisher: Altium Limited; PackageDescription: 3-Pin SOT-23 Package 0.95 mm Pitch, 2.4 mm Lead Span
footprint SOT-23 (SOT23, 3-Leads, Body 3.0x2.5mm (max), Pitch 0.95mm, IPC Medium Density)
pins: 1 B, 2 C, 3 E

## TRIAC
designator Q?
footprint TO-220
footprint TO-247-3
pins: 1 A1, 2 A2, 3 G

## TTP223
designator U?
1 KEY TOUCH PAD DETECTOR IC
footprint SOT-23-6 (SOT23, 6-Leads, Body 3.0x3.0mm (max), Pitch 0.95mm, IPC Medium Density)
pins: 1 Q, 2 VSS, 3 I, 4 AHLB, 5 VDD, 6 TOG

## ULN2003
designator U?
High-voltage, high-current Darlington transistor arrays
footprint SOIC-16 (SOIC, 16-Leads, Body 10.0x4.0mm (max), Pitch 1.27mm, IPC Medium Density)
pins: 1 1B, 2 2B, 3 3B, 4 4B, 5 5B, 6 6B, 7 7B, 8 E, 9 COM, 10 7C, 11 6C, 12 5C, 13 4C, 14 3C, 15 2C, 16 1C

## ULN2803
designator U?
High-voltage, high-current Darlington transistor arrays
footprint SOIC-18 (SOIC, 20-Leads, Body 12.8x7.5mm (max), Pitch 1.27mm, IPC Medium Density)
footprint DIP 18
pins: 1 I1, 2 I2, 3 I3, 4 I4, 5 I5, 6 I6, 7 I7, 8 I8, 9 GND, 10 COM, 11 O8, 12 O7, 13 O6, 14 O5, 15 O4, 16 O3, 17 O2, 18 O1

## UnoEthernet
designator P?, comment EthernetConnector
Header, 5-Pin, Dual row; LatestRevisionDate: 17-Jul-2002; LatestRevisionNote: Re-released for DXP Platform.; Publisher: Altium Limited
footprint UnoEthernet - PLC
pins: 1 VDD, 2 NC, 3 GND, 4 BUSY, 5 TXD, 6 VIN, 7 RXD, 8 VIN, 9 GND, 10 GND

## USART HMI 5 INCH
designator U?, comment USART HMI
pins: 1 A0, 2 A1, 3 A2, 4 VSS, 5 SDA, 6 SCL, 7 WP, 8 VCC

## UU10.5
designator L?, comment L
Filter Inductor; Value: Loc 220; Designed by: VanDungEvn
footprint UU10.5 (Filter Inductor)
pins: 1, 2, 3, 4

## V1000
designator U?
Low-Cost One-Chip Multi-Eﬀects DSP
footprint SOIC-16-WIDE (SOIC, 20-Leads, Body 12.8x7.5mm (max), Pitch 1.27mm, IPC Medium Density)
pins: 1 DOUT, 2 INT/~{EXT}, 3 XIN, 4 XOUT, 5 P0/SDTA, 6 P1/SCLK, 7 P2, 8 P3, 9 LRCLK, 10 SCLK, 11 MCLK, 12 ~{RST}, 13 GND, 14 VDD, 15 NC, 16 DIN

## V40100C
designator D?
Dual High Voltage Trench MOS Barrier Schottky Rectifier; Published: 8-Jun-2000; LatestRevisionDate: 17-Jul-2002; LatestRevisionNote: Re-released for DXP Platform.; PackageVersion: Sep-1996; PackageReference: SMC; Publisher: Altium Limited; Code_JEDEC: DO-214-AB
footprint TO-220
footprint TO-220/HeatSink
footprint TO-220/HeatSink - RA
pins: 1, 2, 3

## Vibration Sensor
designator R?, comment R
Vibration Sensor; Published: 8-Jun-2000; LatestRevisionDate: 17-Jul-2002; LatestRevisionNote: Re-released for DXP Platform.; PackageReference: AXIAL-0.3; Publisher: Altium Limited
footprint R 1/2W
pins: 1, 2

## VIPer22A
designator U?
footprint SOIC-8 (SOIC, 8-Leads, Body 5.0x4.0mm (max), Pitch 1.27mm, IPC Medium Density)
footprint DIP 8 (DIP IC (2.54mm), 8 pins)
pins: 1 SOURCE, 2 SOURCE, 3 FB, 4 VDD, 5 DRAIN, 6 DRAIN, 7 DRAIN, 8 DRAIN

## W5100
designator U?
Single-chip Internet-enabled 10/100 Ethernet controller
footprint QFP 40P 80 (TSQFP, 80-Leads, Body 12.0x12.0mm (max), Pitch 0.40mm, IPC Medium Density)
pins: 1 RSET_BG, 2 VCC3V3A, 3 NC, 4 GNDA, 5 RXIP, 6 RXIN, 7 VCC1V8A, 8 TXOP, 9 TXON, 10 GNDA, 11 1V8_OUT, 12 VCC3V3D, 13 GNDD, 14 GNDD, 15 VCC1V8D, 16 VCC1V8D, 17 GNDD, 18 VCC3V3D (power), 19 DATA7 (power), 20 DATA6, 21 DATA5, 22 DATA4, 23 DATA3, 24 DATA2, 25 DATA1, 26 DATA0, 27 MISO, 28 MOSI, 29 /SCS (power), 30 SCLK, 31 SEN, 32 GNDD, 33 VCC1V8D, 34 TEST_MODE3, 35 TEST_MODE2, 36 TEST_MODE1, 37 TEST_MODE0, 38 ADDR14, 39 ADDR13 (power), 40 ADDR12, 41 ADDR11, 42 ADDR10, 43 GNDD, 44 VCC3V3D, 45 ADDR9 (power), 46 ADDR8 (power), 47 ADDR7, 48 ADDR6, 49 ADDR5, 50 ADDR4, 51 ADDR3, 52 ADDR2, 53 ADDR1 (power), 54 ADDR0 (power), 55 /CS (power), 56 /INT (power), 57 /WR (power), 58 /RD (power), 59 /RESET (power), 60 NC, 61 NC (power), 62 NC (power), 63 OPMODE0 (power), 64 OPMODE1 (power), 65 OPMODE2 (power), 66 LINKLED, 67 SPDLED, 68 GNDD, 69 VCC1V8D (power), 70 FDXLED (power), 71 COLLED (power), 72 RXLED (power), 73 TXLED (power), 74 VCC1V8A, 75 XTLN, 76 XTLP, 77 GNDA, 78 NC, 79 NC, 80 NC

## WizFi210
designator U?, comment WizFi210/220
WIZnet's Serial to WiFi module
footprint WizFi210 (WIZnet's Serial to WiFi module)
pins: 1 GND, 2 JTAG_TCK, 3 JTAG_TDO, 4 JTAG_TDI, 5 JTAG_TMS, 6 JTAG_NTRST, 7 ALARM1, 8 RTC_OUT1, 9 VBAT, 10 DC_DC_CNTL, 11 ALARM2, 12 ADC1, 13 ADC2, 14 MSPI_MISO/GPIO6, 15 MSPI_MOSI/GPIO7, 16 MSPI_CLK0/GPIO5, 17 VOUT_1V8, 18 GND, 19 MSPI_CS0/GPIO4, 20 MSPI_CS1/GPIO13, 21 I2C_CLK/GPIO9, 22 PWM0/GPIO10, 23 CLK_44M/GPIO19, 24 CLK_22M/GPIO20, 25 CLK_11M/GPIO21, 26 I2C_DATA/GPIO8, 27 SSPI_MISO, 28 SSPI_CLK, 29 SSPI_CS, 30 SSPI_MOSI (power), 31 GND (power), 32 VIN_3V3 (power), 33 EN_1V8 (power), 34 VDDIO, 35 EXT_nRESET, 36 UART1_CTS/GPIO26, 37 UART1_RTS/GPIO27, 38 UART1_RX/GPIO3, 39 UART1_TX/GPIO2, 40 UART0_TX/GPIO1 (power), 41 UART0_RTS/GPIO25, 42 UART0_RX/GPIO0, 43 UART0_CTS/GPIO24, 44 GPIO31, 45 GPIO30, 46 GPIO29 (power), 47 GPIO28 (power), 48 GND, 49 EXT_ANT

## WM8501
designator U?
24-bit 192kHz Stereo DAC with 1.7Vrms Line Driver
footprint SOIC-14 (SOIC, 14-Leads, Body 8.6x3.9mm (max), Pitch 1.27mm, IPC Medium Density)
pins: 1 LRCLK, 2 DIN, 3 BCLK, 4 ENABLE, 5 VMID, 6 ROUT, 7 AGND, 8 AVDD, 9 LOUT, 10 DGND, 11 DVDD, 12 DEEMPH, 13 FORMAT, 14 MCLK

## WM8738
designator U?
24 Bit Stereo ADC
footprint SOIC-14 (SOIC, 14-Leads, Body 8.6x3.9mm (max), Pitch 1.27mm, IPC Medium Density)
pins: 1 DVDD, 2 SDATO, 3 BCLK, 4 FMT, 5 CAP, 6 VREF, 7 RIN, 8 LIN, 9 AVDD, 10 AGND, 11 NOHP, 12 LRCLK, 13 MCLK, 14 DGND

## WM8782
designator U?
24 Bit, 192kHz Stereo ADC
footprint SSOP-20
pins: 1 MCLK, 2 DOUT, 3 LRCLK, 4 DGND, 5 DVDD, 6 BCLK, 7 IWL, 8 FSAMPEN, 9 FORMAT, 10 VMID, 11 VREFGND, 12 VREFP, 13 AVDD, 14 AGND, 15 AINOPR, 16 AINR, 17 COM, 18 AINOPL, 19 AINL, 20 M/S

## WT2003S-16S
designator U?
MP3 Chip (SDCARD Version)
footprint SOIC-16 (SOIC, 16-Leads, Body 10.0x4.0mm (max), Pitch 1.27mm, IPC Medium Density)
pins: 1 DACL, 2 DACR, 3 VSS, 4 VDDIO, 5 VDDLDO, 6 GND, 7 P10, 8 SD-DAT/SPI-CLK, 9 SD-CLK/SPI-DAT, 10 SD-CMD/SPI-CS, 11 DM, 12 DP, 13 ADKEY, 14 BUSY, 15 RXD, 16 TXD

## XBEE
designator U?
XBEE Module
footprint XBEE
footprint XBEE Pro
pins: 1 VCC, 2 Dout, 3 Din, 4 DIO12, 5 ~{Reset}, 6 RSSI/DIO10, 7 DIO11, 8 NC, 9 ~{DTR}/DIO8, 10 GND, 11 DIO4, 12 ~{CTS}/DIO7, 13 STATUS/DIO9, 14 VREF, 15 DIO5, 16 ~{RTS}/DIO6, 17 AD3/DIO3, 18 AD2/DIO2, 19 AD1/DIO1, 20 AD0/DIO0

## XL4005
designator U?
5A 300KHz 32V Buck DC to DC Converter
footprint TO-263-5 (D2-PAK, 6-Pads, Body 8.9x10.4mm (max), IPC Medium Density)
pins: 1 GND, 2 FB, 3 SW, 4 EN, 5 VIN, 6 GND hidden to GND, 6 Metal SW

## XL6007
designator U?
400KHz 60V 2A Switching Current Boost / Buck-Boost / Inverting DC/DC Converter
footprint SOIC-8 (SOIC, 8-Leads, Body 5.0x4.0mm (max), Pitch 1.27mm, IPC Medium Density)
pins: 1 EN, 2 VIN, 3 FB, 5 SW, 6 GND hidden to GND, 6 SW, 7 GND, 8 GND

## ZNR
designator ZNR?
Transient/Surge Absorbers
footprint ZNR20
pins: 1, 2